# EAGLE library part NRF24L01+ (library WarthogRobotics-Wireless)
Wireless Transceiver 2,4GHz Module
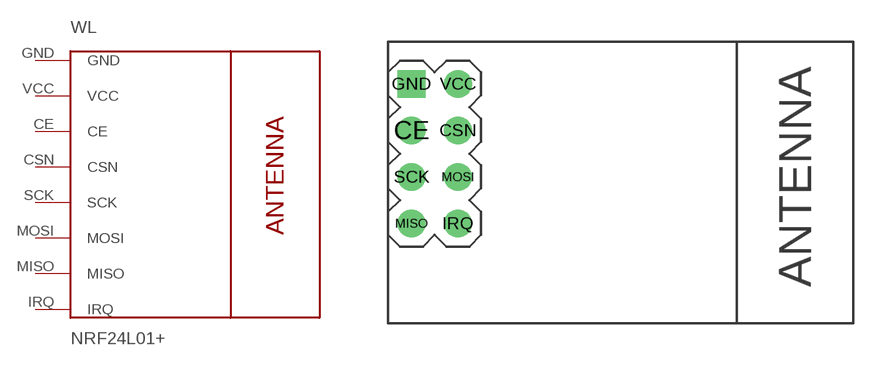
[diagram p1: symbol with the pads of NRF24L01+; footprint NRF24L01+]

Designator prefix WL

## NRF24L01+  [NRF24L01+]
CE  CE
CSN  CSN
GND  GND  pwr
IRQ  IRQ
MISO  MISO
MOSI  MOSI
SCK  SCK
VCC  VCC  pwr

## Footprint NRF24L01+ (pad centres in mm)
Wireless Wi-Fi ESP-01 Module based on ESP8266 chip
drill 1: CE -11.43,1.27; CSN -8.89,1.27; IRQ -8.89,-3.81; MISO -11.43,-3.81; MOSI -8.89,-1.27; SCK -11.43,-1.27; VCC -8.89,3.81
drill 1 square: GND -11.43,3.81